# Altium integrated library Linear Technology Power Management Battery Management.IntLib: 626 symbols (part 39 of 56)
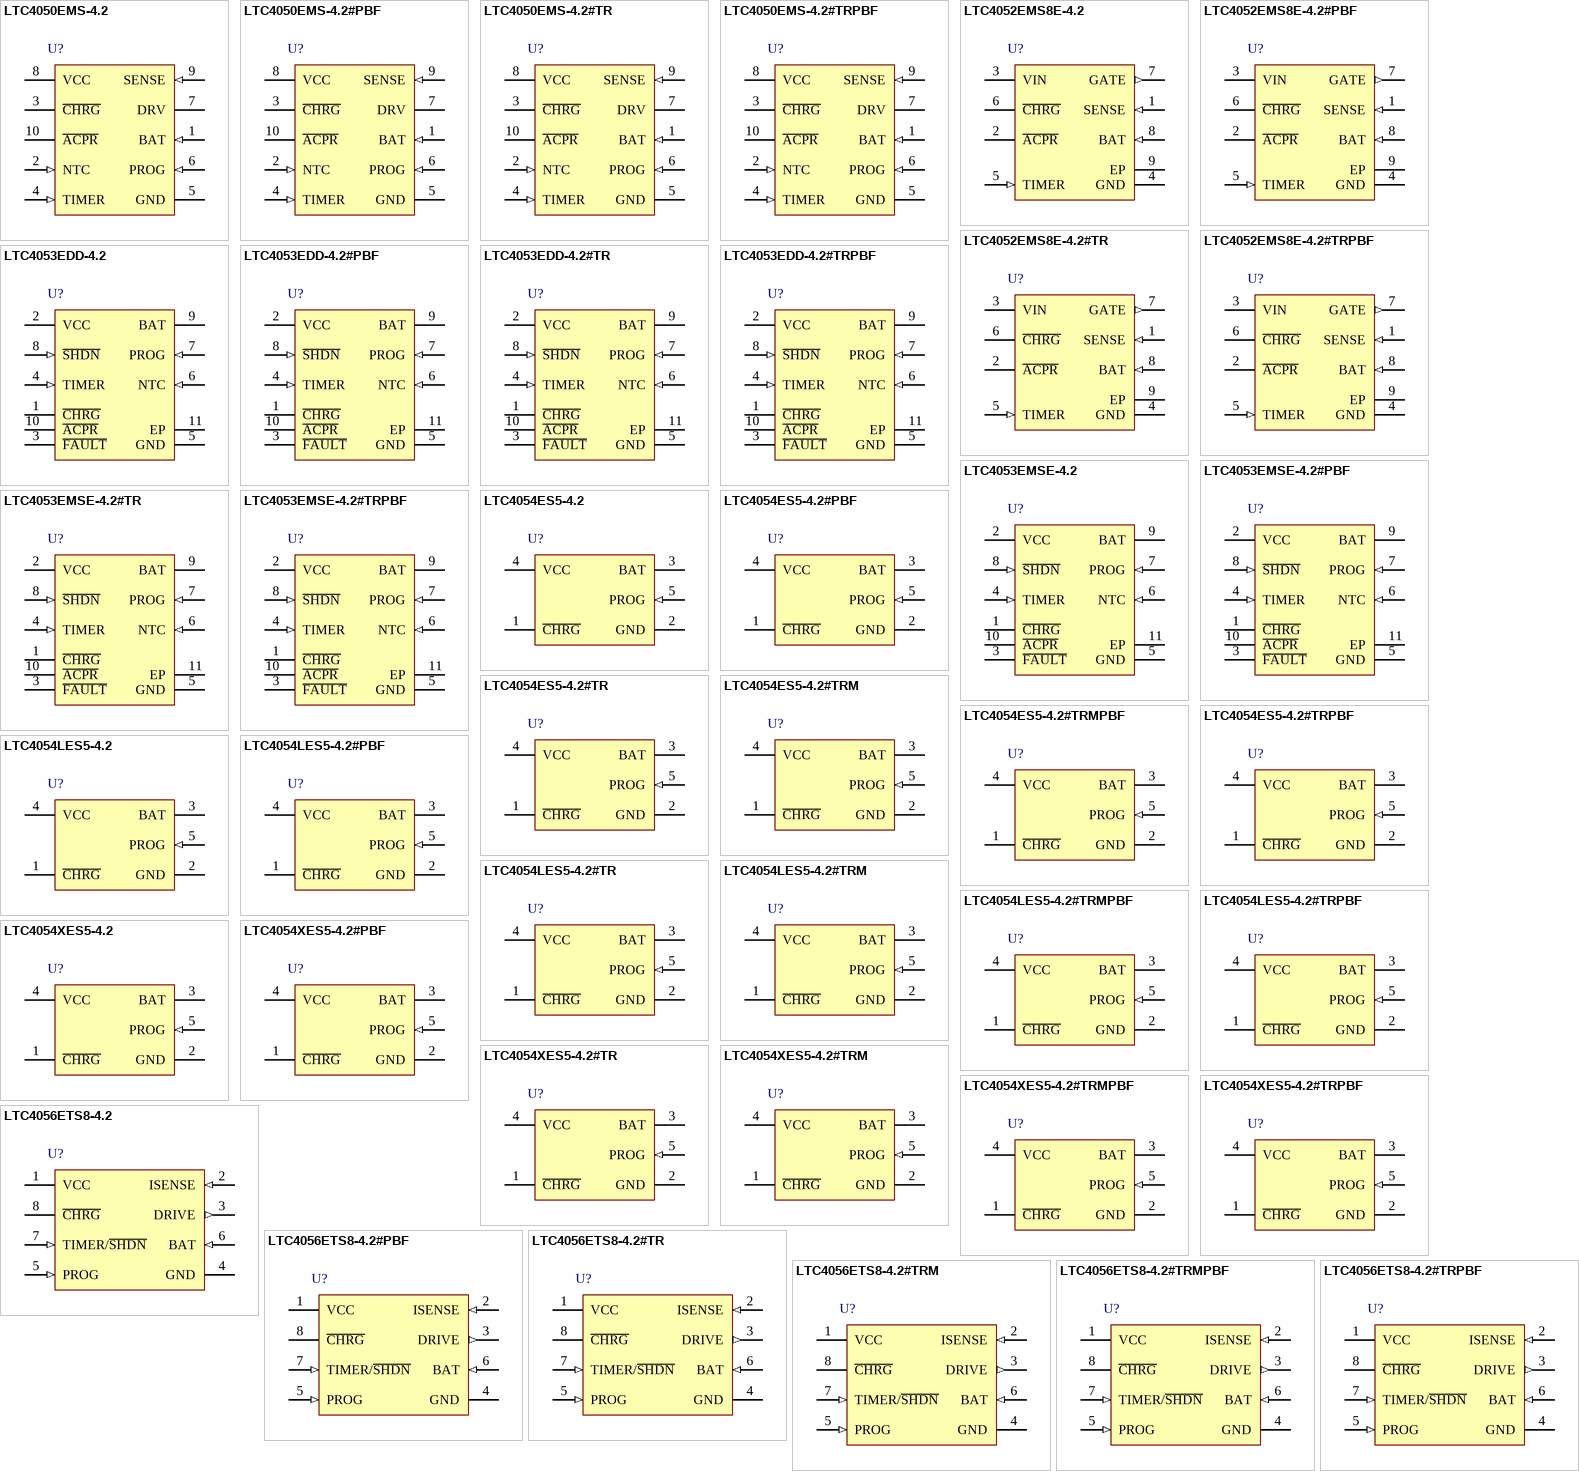
[diagram p60: symbols LTC4050EMS-4.2 to LTC4056ETS8-4.2#TRPBF]

## LTC4053EMSE-4.2#PBF
designator U?
USB Compatible Lithium-Ion Battery Charger with Thermal Regulation, 4.25 to 6.5 V Vin, 10-pin SOP (MSE-10-EDP), -40 to 85 degC, Pb-Free; Manufacturer: Linear Technology; PartNumber: LTC4053EMSE-4.2#PBF; Battery Chemistry: Li-Ion, Li-Polymer; Charge Termination: On-board timer; Float Voltage: 4.2 V; Max Charge Current(A): 1.25; Number of Cells: 1; Type of Charger: Linear; Vin Max(V): 6.5; Vin Min(V): 4.25; DatasheetVersion: Rev. A; PackageVersion: Rev. C, 08/2009; PackageReference: MSE-10; PackageDescription: 10-Pin Plastic MSOP, Exposed Die Pad, Body 3 x 3 mm, Pitch 0.5 mm; Supplier 1: Digi-Key; Supplier Part Number 1: LTC4053EMSE-4.2#PBF-ND; Supplier 2: Farnell; Supplier Part Number 2: 1663727; Supplier 3: Newark; Supplier Part Number 3: 58M0850; RoHS: TRUE; Mounting Technology: Surface Mount; ComponentLink1Description: Manufacturer URL; ComponentLink1URL: http://www.linear.com/; ComponentLink2Description: Datasheet; ComponentLink2URL: http://cds.linear.com/docs/en/datasheet/4053-4.2fs.pdf; ComponentLink3Description: Package Specification; ComponentLink3URL: http://cds.linear.com/docs/en/datasheet/3481fc.pdf
footprint LT-MSE-10-EDP-2060x1830TP_N (SOP, 10-Leads, Body 3.1x3.1mm, Pitch 0.5mm, Thermal Pad 2.17x1.94mm, IPC Medium Density)
footprint LT-MSE-10-EDP-2060x1830TP_L (SOP, 10-Leads, Body 3.1x3.1mm, Pitch 0.5mm, Thermal Pad 2.17x1.94mm, IPC High Density)
footprint LT-MSE-10-EDP-2060x1830TP_M (SOP, 10-Leads, Body 3.1x3.1mm, Pitch 0.5mm, Thermal Pad 2.17x1.94mm, IPC Low Density)
pins: 1 ~{CHRG} (hiz) "Open-Drain Charge Status Output. When the battery is being charged, the C\H\R\G\ pin is pulled low by an internal N-channel MOSFET. When the charge current drops to 10% of the full-scale current, the N-channel MOSFET latches (See Datasheet)", 2 VCC (power), 3 ~{FAULT} (oc), 4 TIMER (in), 5 GND (power) "Ground. The exposed backside of the package is also ground and must be soldered to the PC board for maximum heat transfer.", 6 NTC (in), 7 PROG (in), 8 ~{SHDN} (in), 9 BAT (power) "Charge Current Output. A bypass capacitor of at least 1uF with a 1ohm series resistor is required to keep the loop stable when the battery is not present. A precision internal resistor divider sets the final float potential (See Datasheet)", 10 ~{ACPR} (hiz) "Open-Drain Power Supply Status Output. When VCC is greater than the undervoltage lockout threshold and at least 35mV above VBAT, the A\C\P\R\ pin will pull to ground. Otherwise, the pin is high impedance.", 11 EP (power) "Ground. The exposed backside of the package is also ground and must be soldered to the PC board for maximum heat transfer."

## LTC4053EMSE-4.2#TR
designator U?
USB Compatible Lithium-Ion Battery Charger with Thermal Regulation, 4.25 to 6.5 V Vin, 10-pin SOP (MSE-10-EDP), -40 to 85 degC, Tape and Reel; Manufacturer: Linear Technology; PartNumber: LTC4053EMSE-4.2#TR; Battery Chemistry: Li-Ion, Li-Polymer; Charge Termination: On-board timer; Float Voltage: 4.2 V; Max Charge Current(A): 1.25; Number of Cells: 1; Type of Charger: Linear; Vin Max(V): 6.5; Vin Min(V): 4.25; DatasheetVersion: Rev. A; PackageVersion: Rev. C, 08/2009; PackageReference: MSE-10; PackageDescription: 10-Pin Plastic MSOP, Exposed Die Pad, Body 3 x 3 mm, Pitch 0.5 mm; Supplier 1: Digi-Key; Supplier Part Number 1: LTC4053EMSE-4.2TR-ND; Packing: Tape and Reel; RoHS: FALSE; Mounting Technology: Surface Mount; ComponentLink1Description: Manufacturer URL; ComponentLink1URL: http://www.linear.com/; ComponentLink2Description: Datasheet; ComponentLink2URL: http://cds.linear.com/docs/en/datasheet/4053-4.2fs.pdf; ComponentLink3Description: Package Specification; ComponentLink3URL: http://cds.linear.com/docs/en/datasheet/3481fc.pdf
footprint LT-MSE-10-EDP-2060x1830TP_N (SOP, 10-Leads, Body 3.1x3.1mm, Pitch 0.5mm, Thermal Pad 2.17x1.94mm, IPC Medium Density)
footprint LT-MSE-10-EDP-2060x1830TP_L (SOP, 10-Leads, Body 3.1x3.1mm, Pitch 0.5mm, Thermal Pad 2.17x1.94mm, IPC High Density)
footprint LT-MSE-10-EDP-2060x1830TP_M (SOP, 10-Leads, Body 3.1x3.1mm, Pitch 0.5mm, Thermal Pad 2.17x1.94mm, IPC Low Density)
pins: 1 ~{CHRG} (hiz) "Open-Drain Charge Status Output. When the battery is being charged, the C\H\R\G\ pin is pulled low by an internal N-channel MOSFET. When the charge current drops to 10% of the full-scale current, the N-channel MOSFET latches (See Datasheet)", 2 VCC (power), 3 ~{FAULT} (oc), 4 TIMER (in), 5 GND (power) "Ground. The exposed backside of the package is also ground and must be soldered to the PC board for maximum heat transfer.", 6 NTC (in), 7 PROG (in), 8 ~{SHDN} (in), 9 BAT (power) "Charge Current Output. A bypass capacitor of at least 1uF with a 1ohm series resistor is required to keep the loop stable when the battery is not present. A precision internal resistor divider sets the final float potential (See Datasheet)", 10 ~{ACPR} (hiz) "Open-Drain Power Supply Status Output. When VCC is greater than the undervoltage lockout threshold and at least 35mV above VBAT, the A\C\P\R\ pin will pull to ground. Otherwise, the pin is high impedance.", 11 EP (power) "Ground. The exposed backside of the package is also ground and must be soldered to the PC board for maximum heat transfer."

## LTC4053EMSE-4.2#TRPBF
designator U?
USB Compatible Lithium-Ion Battery Charger with Thermal Regulation, 4.25 to 6.5 V Vin, 10-pin SOP (MSE-10-EDP), -40 to 85 degC, Pb-Free, Tape and Reel; Manufacturer: Linear Technology; PartNumber: LTC4053EMSE-4.2#TRPBF; Battery Chemistry: Li-Ion, Li-Polymer; Charge Termination: On-board timer; Float Voltage: 4.2 V; Max Charge Current(A): 1.25; Number of Cells: 1; Type of Charger: Linear; Vin Max(V): 6.5; Vin Min(V): 4.25; DatasheetVersion: Rev. A; PackageVersion: Rev. C, 08/2009; PackageReference: MSE-10; PackageDescription: 10-Pin Plastic MSOP, Exposed Die Pad, Body 3 x 3 mm, Pitch 0.5 mm; Supplier 1: Digi-Key; Supplier Part Number 1: LTC4053EMSE-4.2#TRPBF-ND; Packing: Tape and Reel; RoHS: TRUE; Mounting Technology: Surface Mount; ComponentLink1Description: Manufacturer URL; ComponentLink1URL: http://www.linear.com/; ComponentLink2Description: Datasheet; ComponentLink2URL: http://cds.linear.com/docs/en/datasheet/4053-4.2fs.pdf; ComponentLink3Description: Package Specification; ComponentLink3URL: http://cds.linear.com/docs/en/datasheet/3481fc.pdf
footprint LT-MSE-10-EDP-2060x1830TP_N (SOP, 10-Leads, Body 3.1x3.1mm, Pitch 0.5mm, Thermal Pad 2.17x1.94mm, IPC Medium Density)
footprint LT-MSE-10-EDP-2060x1830TP_L (SOP, 10-Leads, Body 3.1x3.1mm, Pitch 0.5mm, Thermal Pad 2.17x1.94mm, IPC High Density)
footprint LT-MSE-10-EDP-2060x1830TP_M (SOP, 10-Leads, Body 3.1x3.1mm, Pitch 0.5mm, Thermal Pad 2.17x1.94mm, IPC Low Density)
pins: 1 ~{CHRG} (hiz) "Open-Drain Charge Status Output. When the battery is being charged, the C\H\R\G\ pin is pulled low by an internal N-channel MOSFET. When the charge current drops to 10% of the full-scale current, the N-channel MOSFET latches (See Datasheet)", 2 VCC (power), 3 ~{FAULT} (oc), 4 TIMER (in), 5 GND (power) "Ground. The exposed backside of the package is also ground and must be soldered to the PC board for maximum heat transfer.", 6 NTC (in), 7 PROG (in), 8 ~{SHDN} (in), 9 BAT (power) "Charge Current Output. A bypass capacitor of at least 1uF with a 1ohm series resistor is required to keep the loop stable when the battery is not present. A precision internal resistor divider sets the final float potential (See Datasheet)", 10 ~{ACPR} (hiz) "Open-Drain Power Supply Status Output. When VCC is greater than the undervoltage lockout threshold and at least 35mV above VBAT, the A\C\P\R\ pin will pull to ground. Otherwise, the pin is high impedance.", 11 EP (power) "Ground. The exposed backside of the package is also ground and must be soldered to the PC board for maximum heat transfer."

## LTC4054ES5-4.2
designator U?
Standalone Linear Li-Ion Battery Charger with Thermal Regulation, 4.25 to 6.5 V Vin, 5-pin SOT23 (S5-5), -40 to 85 degC; Manufacturer: Linear Technology; PartNumber: LTC4054ES5-4.2; Battery Chemistry: Li-Ion, Li-Polymer; Charge Termination: C/10; Float Voltage: 4.2 V; Max Charge Current(A): 0.8; Number of Cells: 1; Vin Max(V): 6.5; Vin Min(V): 4.25; PackageVersion: Jun-10; PackageReference: S5-5; PackageDescription: 5-Pin Plastic TSOT-23, Body 1.63 x 2.90 mm, Pitch 0.95 mm; RoHS: FALSE; Type of Charger: Linear; Mounting Technology: Surface Mount; Code_JEDEC: MO-193; ComponentLink1Description: Manufacturer URL; ComponentLink1URL: http://www.linear.com/; ComponentLink2Description: Datasheet; ComponentLink2URL: http://cds.linear.com/docs/en/datasheet/405442xf.pdf; ComponentLink3Description: Package Specification; ComponentLink3URL: http://cds.linear.com/docs/en/packaging/SOT_5_05-08-1635.pdf
footprint LT-S5-5-TSOT-23_N (SOT23, 5-Leads, Body 2.90x1.63mm, Pitch 0.95mm, IPC Medium Density)
footprint LT-S5-5-TSOT-23_L (SOT23, 5-Leads, Body 2.90x1.63mm, Pitch 0.95mm, IPC High Density)
footprint LT-S5-5-TSOT-23_M (SOT23, 5-Leads, Body 2.90x1.63mm, Pitch 0.95mm, IPC Low Density)
pins: 1 ~{CHRG} (hiz), 2 GND (power) "Ground.", 3 BAT (power) "Charge Current Output. Provides charge current to the battery and regulates the final float voltage to 4.2V. An internal precision resistor divider from this pin sets the float voltage which is disconnected in shutdown mode.", 4 VCC (power), 5 PROG (in) "Charge Current Program, Charge Current Monitor and Shutdown Pin. The charge current is programmed by connecting a 1% resistor, RPROG, to ground. When charging in constant-current mode, this pin servos to 1V. In all modes, (See Datasheet)"

## LTC4054ES5-4.2#PBF
designator U?
Standalone Linear Li-Ion Battery Charger with Thermal Regulation, 4.25 to 6.5 V Vin, 5-pin SOT23 (S5-5), -40 to 85 degC, Pb-Free; Manufacturer: Linear Technology; PartNumber: LTC4054ES5-4.2#PBF; Battery Chemistry: Li-Ion, Li-Polymer; Charge Termination: C/10; Float Voltage: 4.2 V; Max Charge Current(A): 0.8; Number of Cells: 1; Vin Max(V): 6.5; Vin Min(V): 4.25; PackageVersion: Jun-10; PackageReference: S5-5; PackageDescription: 5-Pin Plastic TSOT-23, Body 1.63 x 2.90 mm, Pitch 0.95 mm; RoHS: TRUE; Type of Charger: Linear; Mounting Technology: Surface Mount; Code_JEDEC: MO-193; ComponentLink1Description: Manufacturer URL; ComponentLink1URL: http://www.linear.com/; ComponentLink2Description: Datasheet; ComponentLink2URL: http://cds.linear.com/docs/en/datasheet/405442xf.pdf; ComponentLink3Description: Package Specification; ComponentLink3URL: http://cds.linear.com/docs/en/packaging/SOT_5_05-08-1635.pdf
footprint LT-S5-5-TSOT-23_N (SOT23, 5-Leads, Body 2.90x1.63mm, Pitch 0.95mm, IPC Medium Density)
footprint LT-S5-5-TSOT-23_L (SOT23, 5-Leads, Body 2.90x1.63mm, Pitch 0.95mm, IPC High Density)
footprint LT-S5-5-TSOT-23_M (SOT23, 5-Leads, Body 2.90x1.63mm, Pitch 0.95mm, IPC Low Density)
pins: 1 ~{CHRG} (hiz), 2 GND (power) "Ground.", 3 BAT (power) "Charge Current Output. Provides charge current to the battery and regulates the final float voltage to 4.2V. An internal precision resistor divider from this pin sets the float voltage which is disconnected in shutdown mode.", 4 VCC (power), 5 PROG (in) "Charge Current Program, Charge Current Monitor and Shutdown Pin. The charge current is programmed by connecting a 1% resistor, RPROG, to ground. When charging in constant-current mode, this pin servos to 1V. In all modes, (See Datasheet)"

## LTC4054ES5-4.2#TR
designator U?
Standalone Linear Li-Ion Battery Charger with Thermal Regulation, 4.25 to 6.5 V Vin, 5-pin SOT23 (S5-5), -40 to 85 degC, Tape and Reel; Manufacturer: Linear Technology; PartNumber: LTC4054ES5-4.2#TR; Battery Chemistry: Li-Ion, Li-Polymer; Charge Termination: C/10; Float Voltage: 4.2 V; Max Charge Current(A): 0.8; Number of Cells: 1; Vin Max(V): 6.5; Vin Min(V): 4.25; PackageVersion: Jun-10; PackageReference: S5-5; PackageDescription: 5-Pin Plastic TSOT-23, Body 1.63 x 2.90 mm, Pitch 0.95 mm; Supplier 1: Digi-Key; Supplier Part Number 1: LTC4054ES5-4.2#TR-ND; Packing: Tape and Reel; RoHS: FALSE; Type of Charger: Linear; Mounting Technology: Surface Mount; Code_JEDEC: MO-193; ComponentLink1Description: Manufacturer URL; ComponentLink1URL: http://www.linear.com/; ComponentLink2Description: Datasheet; ComponentLink2URL: http://cds.linear.com/docs/en/datasheet/405442xf.pdf; ComponentLink3Description: Package Specification; ComponentLink3URL: http://cds.linear.com/docs/en/packaging/SOT_5_05-08-1635.pdf
footprint LT-S5-5-TSOT-23_N (SOT23, 5-Leads, Body 2.90x1.63mm, Pitch 0.95mm, IPC Medium Density)
footprint LT-S5-5-TSOT-23_L (SOT23, 5-Leads, Body 2.90x1.63mm, Pitch 0.95mm, IPC High Density)
footprint LT-S5-5-TSOT-23_M (SOT23, 5-Leads, Body 2.90x1.63mm, Pitch 0.95mm, IPC Low Density)
pins: 1 ~{CHRG} (hiz), 2 GND (power) "Ground.", 3 BAT (power) "Charge Current Output. Provides charge current to the battery and regulates the final float voltage to 4.2V. An internal precision resistor divider from this pin sets the float voltage which is disconnected in shutdown mode.", 4 VCC (power), 5 PROG (in) "Charge Current Program, Charge Current Monitor and Shutdown Pin. The charge current is programmed by connecting a 1% resistor, RPROG, to ground. When charging in constant-current mode, this pin servos to 1V. In all modes, (See Datasheet)"

## LTC4054ES5-4.2#TRM
designator U?
Standalone Linear Li-Ion Battery Charger with Thermal Regulation, 4.25 to 6.5 V Vin, 5-pin SOT23 (S5-5), -40 to 85 degC, Mini Tape and Reel; Manufacturer: Linear Technology; PartNumber: LTC4054ES5-4.2#TRM; Battery Chemistry: Li-Ion, Li-Polymer; Charge Termination: C/10; Float Voltage: 4.2 V; Max Charge Current(A): 0.8; Number of Cells: 1; Vin Max(V): 6.5; Vin Min(V): 4.25; PackageVersion: Jun-10; PackageReference: S5-5; PackageDescription: 5-Pin Plastic TSOT-23, Body 1.63 x 2.90 mm, Pitch 0.95 mm; Supplier 1: Digi-Key; Supplier Part Number 1: LTC4054ES5-4.2#TRM-ND; Packing: Mini Tape and Reel; RoHS: FALSE; Type of Charger: Linear; Mounting Technology: Surface Mount; Code_JEDEC: MO-193; ComponentLink1Description: Manufacturer URL; ComponentLink1URL: http://www.linear.com/; ComponentLink2Description: Datasheet; ComponentLink2URL: http://cds.linear.com/docs/en/datasheet/405442xf.pdf; ComponentLink3Description: Package Specification; ComponentLink3URL: http://cds.linear.com/docs/en/packaging/SOT_5_05-08-1635.pdf
footprint LT-S5-5-TSOT-23_N (SOT23, 5-Leads, Body 2.90x1.63mm, Pitch 0.95mm, IPC Medium Density)
footprint LT-S5-5-TSOT-23_L (SOT23, 5-Leads, Body 2.90x1.63mm, Pitch 0.95mm, IPC High Density)
footprint LT-S5-5-TSOT-23_M (SOT23, 5-Leads, Body 2.90x1.63mm, Pitch 0.95mm, IPC Low Density)
pins: 1 ~{CHRG} (hiz), 2 GND (power) "Ground.", 3 BAT (power) "Charge Current Output. Provides charge current to the battery and regulates the final float voltage to 4.2V. An internal precision resistor divider from this pin sets the float voltage which is disconnected in shutdown mode.", 4 VCC (power), 5 PROG (in) "Charge Current Program, Charge Current Monitor and Shutdown Pin. The charge current is programmed by connecting a 1% resistor, RPROG, to ground. When charging in constant-current mode, this pin servos to 1V. In all modes, (See Datasheet)"

## LTC4054ES5-4.2#TRMPBF
designator U?
Standalone Linear Li-Ion Battery Charger with Thermal Regulation, 4.25 to 6.5 V Vin, 5-pin SOT23 (S5-5), -40 to 85 degC, Pb-Free, Mini Tape and Reel; Manufacturer: Linear Technology; PartNumber: LTC4054ES5-4.2#TRMPBF; Battery Chemistry: Li-Ion, Li-Polymer; Charge Termination: C/10; Float Voltage: 4.2 V; Max Charge Current(A): 0.8; Number of Cells: 1; Vin Max(V): 6.5; Vin Min(V): 4.25; PackageVersion: Jun-10; PackageReference: S5-5; PackageDescription: 5-Pin Plastic TSOT-23, Body 1.63 x 2.90 mm, Pitch 0.95 mm; Supplier 1: Digi-Key; Supplier Part Number 1: LTC4054ES5-4.2#TRMPBF-ND; Supplier 2: Newark; Supplier Part Number 2: 58M0855; Packing: Mini Tape and Reel; RoHS: TRUE; Type of Charger: Linear; Mounting Technology: Surface Mount; Code_JEDEC: MO-193; ComponentLink1Description: Manufacturer URL; ComponentLink1URL: http://www.linear.com/; ComponentLink2Description: Datasheet; ComponentLink2URL: http://cds.linear.com/docs/en/datasheet/405442xf.pdf; ComponentLink3Description: Package Specification; ComponentLink3URL: http://cds.linear.com/docs/en/packaging/SOT_5_05-08-1635.pdf
footprint LT-S5-5-TSOT-23_N (SOT23, 5-Leads, Body 2.90x1.63mm, Pitch 0.95mm, IPC Medium Density)
footprint LT-S5-5-TSOT-23_L (SOT23, 5-Leads, Body 2.90x1.63mm, Pitch 0.95mm, IPC High Density)
footprint LT-S5-5-TSOT-23_M (SOT23, 5-Leads, Body 2.90x1.63mm, Pitch 0.95mm, IPC Low Density)
pins: 1 ~{CHRG} (hiz), 2 GND (power) "Ground.", 3 BAT (power) "Charge Current Output. Provides charge current to the battery and regulates the final float voltage to 4.2V. An internal precision resistor divider from this pin sets the float voltage which is disconnected in shutdown mode.", 4 VCC (power), 5 PROG (in) "Charge Current Program, Charge Current Monitor and Shutdown Pin. The charge current is programmed by connecting a 1% resistor, RPROG, to ground. When charging in constant-current mode, this pin servos to 1V. In all modes, (See Datasheet)"

## LTC4054ES5-4.2#TRPBF
designator U?
Standalone Linear Li-Ion Battery Charger with Thermal Regulation, 4.25 to 6.5 V Vin, 5-pin SOT23 (S5-5), -40 to 85 degC, Pb-Free, Tape and Reel; Manufacturer: Linear Technology; PartNumber: LTC4054ES5-4.2#TRPBF; Battery Chemistry: Li-Ion, Li-Polymer; Charge Termination: C/10; Float Voltage: 4.2 V; Max Charge Current(A): 0.8; Number of Cells: 1; Vin Max(V): 6.5; Vin Min(V): 4.25; PackageVersion: Jun-10; PackageReference: S5-5; PackageDescription: 5-Pin Plastic TSOT-23, Body 1.63 x 2.90 mm, Pitch 0.95 mm; Supplier 1: Digi-Key; Supplier Part Number 1: LTC4054ES5-4.2#TRPBF-ND; Supplier 2: Newark; Supplier Part Number 2: 58M0856; Packing: Tape and Reel; RoHS: TRUE; Type of Charger: Linear; Mounting Technology: Surface Mount; Code_JEDEC: MO-193; ComponentLink1Description: Manufacturer URL; ComponentLink1URL: http://www.linear.com/; ComponentLink2Description: Datasheet; ComponentLink2URL: http://cds.linear.com/docs/en/datasheet/405442xf.pdf; ComponentLink3Description: Package Specification; ComponentLink3URL: http://cds.linear.com/docs/en/packaging/SOT_5_05-08-1635.pdf
footprint LT-S5-5-TSOT-23_N (SOT23, 5-Leads, Body 2.90x1.63mm, Pitch 0.95mm, IPC Medium Density)
footprint LT-S5-5-TSOT-23_L (SOT23, 5-Leads, Body 2.90x1.63mm, Pitch 0.95mm, IPC High Density)
footprint LT-S5-5-TSOT-23_M (SOT23, 5-Leads, Body 2.90x1.63mm, Pitch 0.95mm, IPC Low Density)
pins: 1 ~{CHRG} (hiz), 2 GND (power) "Ground.", 3 BAT (power) "Charge Current Output. Provides charge current to the battery and regulates the final float voltage to 4.2V. An internal precision resistor divider from this pin sets the float voltage which is disconnected in shutdown mode.", 4 VCC (power), 5 PROG (in) "Charge Current Program, Charge Current Monitor and Shutdown Pin. The charge current is programmed by connecting a 1% resistor, RPROG, to ground. When charging in constant-current mode, this pin servos to 1V. In all modes, (See Datasheet)"

## LTC4054LES5-4.2
designator U?
150 mA Standalone Linear Li-Ion Battery Charger, 4.25 to 6.5 V Vin, 5-pin SOT23 (S5-5), -40 to 85 degC; Manufacturer: Linear Technology; PartNumber: LTC4054LES5-4.2; Battery Chemistry: Li-Ion, Li-Polymer; Charge Termination: C/10; Float Voltage: 4.2 V; Max Charge Current(A): 0.15; Number of Cells: 1; Vin Max(V): 6.5; Vin Min(V): 4.25; DatasheetVersion: Rev. A; PackageVersion: Jun-10; PackageReference: S5-5; PackageDescription: 5-Pin Plastic TSOT-23, Body 1.63 x 2.90 mm, Pitch 0.95 mm; RoHS: FALSE; Type of Charger: Linear; Mounting Technology: Surface Mount; Code_JEDEC: MO-193; ComponentLink1Description: Manufacturer URL; ComponentLink1URL: http://www.linear.com/; ComponentLink2Description: Datasheet; ComponentLink2URL: http://cds.linear.com/docs/en/datasheet/4054l42fa.pdf; ComponentLink3Description: Package Specification; ComponentLink3URL: http://cds.linear.com/docs/en/packaging/SOT_5_05-08-1635.pdf
footprint LT-S5-5-TSOT-23_N (SOT23, 5-Leads, Body 2.90x1.63mm, Pitch 0.95mm, IPC Medium Density)
footprint LT-S5-5-TSOT-23_L (SOT23, 5-Leads, Body 2.90x1.63mm, Pitch 0.95mm, IPC High Density)
footprint LT-S5-5-TSOT-23_M (SOT23, 5-Leads, Body 2.90x1.63mm, Pitch 0.95mm, IPC Low Density)
pins: 1 ~{CHRG} (hiz), 2 GND (power) "Ground.", 3 BAT (power) "Charge Current Output. Provides charge current to the battery and regulates the final float voltage to 4.2V. An internal precision resistor divider from this pin sets the float voltage which is disconnected in shutdown mode.", 4 VCC (power), 5 PROG (in) "Charge Current Program, Charge Current Monitor and Shutdown Pin. The charge current is programmed by connecting a 1% resistor, RPROG, to ground. When charging in constant-current mode, this pin servos to 1V. In all modes, (See Datasheet)"

## LTC4054LES5-4.2#PBF
designator U?
150 mA Standalone Linear Li-Ion Battery Charger, 4.25 to 6.5 V Vin, 5-pin SOT23 (S5-5), -40 to 85 degC, Pb-Free; Manufacturer: Linear Technology; PartNumber: LTC4054LES5-4.2#PBF; Battery Chemistry: Li-Ion, Li-Polymer; Charge Termination: C/10; Float Voltage: 4.2 V; Max Charge Current(A): 0.15; Number of Cells: 1; Vin Max(V): 6.5; Vin Min(V): 4.25; DatasheetVersion: Rev. A; PackageVersion: Jun-10; PackageReference: S5-5; PackageDescription: 5-Pin Plastic TSOT-23, Body 1.63 x 2.90 mm, Pitch 0.95 mm; Supplier 1: Farnell; Supplier Part Number 1: 2102610; Supplier 2: Newark; Supplier Part Number 2: 78T3294; RoHS: TRUE; Type of Charger: Linear; Mounting Technology: Surface Mount; Code_JEDEC: MO-193; ComponentLink1Description: Manufacturer URL; ComponentLink1URL: http://www.linear.com/; ComponentLink2Description: Datasheet; ComponentLink2URL: http://cds.linear.com/docs/en/datasheet/4054l42fa.pdf; ComponentLink3Description: Package Specification; ComponentLink3URL: http://cds.linear.com/docs/en/packaging/SOT_5_05-08-1635.pdf
footprint LT-S5-5-TSOT-23_N (SOT23, 5-Leads, Body 2.90x1.63mm, Pitch 0.95mm, IPC Medium Density)
footprint LT-S5-5-TSOT-23_L (SOT23, 5-Leads, Body 2.90x1.63mm, Pitch 0.95mm, IPC High Density)
footprint LT-S5-5-TSOT-23_M (SOT23, 5-Leads, Body 2.90x1.63mm, Pitch 0.95mm, IPC Low Density)
pins: 1 ~{CHRG} (hiz), 2 GND (power) "Ground.", 3 BAT (power) "Charge Current Output. Provides charge current to the battery and regulates the final float voltage to 4.2V. An internal precision resistor divider from this pin sets the float voltage which is disconnected in shutdown mode.", 4 VCC (power), 5 PROG (in) "Charge Current Program, Charge Current Monitor and Shutdown Pin. The charge current is programmed by connecting a 1% resistor, RPROG, to ground. When charging in constant-current mode, this pin servos to 1V. In all modes, (See Datasheet)"

## LTC4054LES5-4.2#TR
designator U?
150 mA Standalone Linear Li-Ion Battery Charger, 4.25 to 6.5 V Vin, 5-pin SOT23 (S5-5), -40 to 85 degC, Tape and Reel; Manufacturer: Linear Technology; PartNumber: LTC4054LES5-4.2#TR; Battery Chemistry: Li-Ion, Li-Polymer; Charge Termination: C/10; Float Voltage: 4.2 V; Max Charge Current(A): 0.15; Number of Cells: 1; Vin Max(V): 6.5; Vin Min(V): 4.25; DatasheetVersion: Rev. A; PackageVersion: Jun-10; PackageReference: S5-5; PackageDescription: 5-Pin Plastic TSOT-23, Body 1.63 x 2.90 mm, Pitch 0.95 mm; Supplier 1: Digi-Key; Supplier Part Number 1: LTC4054LES5-4.2TR-ND; Packing: Tape and Reel; RoHS: FALSE; Type of Charger: Linear; Mounting Technology: Surface Mount; Code_JEDEC: MO-193; ComponentLink1Description: Manufacturer URL; ComponentLink1URL: http://www.linear.com/; ComponentLink2Description: Datasheet; ComponentLink2URL: http://cds.linear.com/docs/en/datasheet/4054l42fa.pdf; ComponentLink3Description: Package Specification; ComponentLink3URL: http://cds.linear.com/docs/en/packaging/SOT_5_05-08-1635.pdf
footprint LT-S5-5-TSOT-23_N (SOT23, 5-Leads, Body 2.90x1.63mm, Pitch 0.95mm, IPC Medium Density)
footprint LT-S5-5-TSOT-23_L (SOT23, 5-Leads, Body 2.90x1.63mm, Pitch 0.95mm, IPC High Density)
footprint LT-S5-5-TSOT-23_M (SOT23, 5-Leads, Body 2.90x1.63mm, Pitch 0.95mm, IPC Low Density)
pins: 1 ~{CHRG} (hiz), 2 GND (power) "Ground.", 3 BAT (power) "Charge Current Output. Provides charge current to the battery and regulates the final float voltage to 4.2V. An internal precision resistor divider from this pin sets the float voltage which is disconnected in shutdown mode.", 4 VCC (power), 5 PROG (in) "Charge Current Program, Charge Current Monitor and Shutdown Pin. The charge current is programmed by connecting a 1% resistor, RPROG, to ground. When charging in constant-current mode, this pin servos to 1V. In all modes, (See Datasheet)"

## LTC4054LES5-4.2#TRM
designator U?
150 mA Standalone Linear Li-Ion Battery Charger, 4.25 to 6.5 V Vin, 5-pin SOT23 (S5-5), -40 to 85 degC, Mini Tape and Reel; Manufacturer: Linear Technology; PartNumber: LTC4054LES5-4.2#TRM; Battery Chemistry: Li-Ion, Li-Polymer; Charge Termination: C/10; Float Voltage: 4.2 V; Max Charge Current(A): 0.15; Number of Cells: 1; Vin Max(V): 6.5; Vin Min(V): 4.25; DatasheetVersion: Rev. A; PackageVersion: Jun-10; PackageReference: S5-5; PackageDescription: 5-Pin Plastic TSOT-23, Body 1.63 x 2.90 mm, Pitch 0.95 mm; Supplier 1: Digi-Key; Supplier Part Number 1: LTC4054LES5-4.2#TRM-ND; Packing: Mini Tape and Reel; RoHS: FALSE; Type of Charger: Linear; Mounting Technology: Surface Mount; Code_JEDEC: MO-193; ComponentLink1Description: Manufacturer URL; ComponentLink1URL: http://www.linear.com/; ComponentLink2Description: Datasheet; ComponentLink2URL: http://cds.linear.com/docs/en/datasheet/4054l42fa.pdf; ComponentLink3Description: Package Specification; ComponentLink3URL: http://cds.linear.com/docs/en/packaging/SOT_5_05-08-1635.pdf
footprint LT-S5-5-TSOT-23_N (SOT23, 5-Leads, Body 2.90x1.63mm, Pitch 0.95mm, IPC Medium Density)
footprint LT-S5-5-TSOT-23_L (SOT23, 5-Leads, Body 2.90x1.63mm, Pitch 0.95mm, IPC High Density)
footprint LT-S5-5-TSOT-23_M (SOT23, 5-Leads, Body 2.90x1.63mm, Pitch 0.95mm, IPC Low Density)
pins: 1 ~{CHRG} (hiz), 2 GND (power) "Ground.", 3 BAT (power) "Charge Current Output. Provides charge current to the battery and regulates the final float voltage to 4.2V. An internal precision resistor divider from this pin sets the float voltage which is disconnected in shutdown mode.", 4 VCC (power), 5 PROG (in) "Charge Current Program, Charge Current Monitor and Shutdown Pin. The charge current is programmed by connecting a 1% resistor, RPROG, to ground. When charging in constant-current mode, this pin servos to 1V. In all modes, (See Datasheet)"

## LTC4054LES5-4.2#TRMPBF
designator U?
150 mA Standalone Linear Li-Ion Battery Charger, 4.25 to 6.5 V Vin, 5-pin SOT23 (S5-5), -40 to 85 degC, Pb-Free, Mini Tape and Reel; Manufacturer: Linear Technology; PartNumber: LTC4054LES5-4.2#TRMPBF; Battery Chemistry: Li-Ion, Li-Polymer; Charge Termination: C/10; Float Voltage: 4.2 V; Max Charge Current(A): 0.15; Number of Cells: 1; Vin Max(V): 6.5; Vin Min(V): 4.25; DatasheetVersion: Rev. A; PackageVersion: Jun-10; PackageReference: S5-5; PackageDescription: 5-Pin Plastic TSOT-23, Body 1.63 x 2.90 mm, Pitch 0.95 mm; Supplier 1: Digi-Key; Supplier Part Number 1: LTC4054LES5-4.2#TRMPBFTR-ND; Supplier 2: Digi-Key; Supplier Part Number 2: LTC4054LES5-4.2#TRMPBFCT-ND; Supplier 3: Digi-Key; Supplier Part Number 3: LTC4054LES5-4.2#TRMPBFDKR-ND; Packing: Mini Tape and Reel; RoHS: TRUE; Type of Charger: Linear; Mounting Technology: Surface Mount; Code_JEDEC: MO-193; ComponentLink1Description: Manufacturer URL; ComponentLink1URL: http://www.linear.com/; ComponentLink2Description: Datasheet; ComponentLink2URL: http://cds.linear.com/docs/en/datasheet/4054l42fa.pdf; ComponentLink3Description: Package Specification; ComponentLink3URL: http://cds.linear.com/docs/en/packaging/SOT_5_05-08-1635.pdf
footprint LT-S5-5-TSOT-23_N (SOT23, 5-Leads, Body 2.90x1.63mm, Pitch 0.95mm, IPC Medium Density)
footprint LT-S5-5-TSOT-23_L (SOT23, 5-Leads, Body 2.90x1.63mm, Pitch 0.95mm, IPC High Density)
footprint LT-S5-5-TSOT-23_M (SOT23, 5-Leads, Body 2.90x1.63mm, Pitch 0.95mm, IPC Low Density)
pins: 1 ~{CHRG} (hiz), 2 GND (power) "Ground.", 3 BAT (power) "Charge Current Output. Provides charge current to the battery and regulates the final float voltage to 4.2V. An internal precision resistor divider from this pin sets the float voltage which is disconnected in shutdown mode.", 4 VCC (power), 5 PROG (in) "Charge Current Program, Charge Current Monitor and Shutdown Pin. The charge current is programmed by connecting a 1% resistor, RPROG, to ground. When charging in constant-current mode, this pin servos to 1V. In all modes, (See Datasheet)"

## LTC4054LES5-4.2#TRPBF
designator U?
150 mA Standalone Linear Li-Ion Battery Charger, 4.25 to 6.5 V Vin, 5-pin SOT23 (S5-5), -40 to 85 degC, Pb-Free, Tape and Reel; Manufacturer: Linear Technology; PartNumber: LTC4054LES5-4.2#TRPBF; Battery Chemistry: Li-Ion, Li-Polymer; Charge Termination: C/10; Float Voltage: 4.2 V; Max Charge Current(A): 0.15; Number of Cells: 1; Vin Max(V): 6.5; Vin Min(V): 4.25; DatasheetVersion: Rev. A; PackageVersion: Jun-10; PackageReference: S5-5; PackageDescription: 5-Pin Plastic TSOT-23, Body 1.63 x 2.90 mm, Pitch 0.95 mm; Supplier 1: Digi-Key; Supplier Part Number 1: LTC4054LES5-4.2#TRPBFTR-ND; Supplier 2: Digi-Key; Supplier Part Number 2: LTC4054LES5-4.2#TRPBFCT-ND; Supplier 3: Digi-Key; Supplier Part Number 3: LTC4054LES5-4.2#TRPBFDKR-ND; Supplier 4: Farnell; Supplier Part Number 4: 1537421; Supplier 5: Newark; Supplier Part Number 5: 58M0860; Packing: Tape and Reel; RoHS: TRUE; Type of Charger: Linear; Mounting Technology: Surface Mount; Code_JEDEC: MO-193; ComponentLink1Description: Manufacturer URL; ComponentLink1URL: http://www.linear.com/; ComponentLink2Description: Datasheet; ComponentLink2URL: http://cds.linear.com/docs/en/datasheet/4054l42fa.pdf; ComponentLink3Description: Package Specification; ComponentLink3URL: http://cds.linear.com/docs/en/packaging/SOT_5_05-08-1635.pdf
footprint LT-S5-5-TSOT-23_N (SOT23, 5-Leads, Body 2.90x1.63mm, Pitch 0.95mm, IPC Medium Density)
footprint LT-S5-5-TSOT-23_L (SOT23, 5-Leads, Body 2.90x1.63mm, Pitch 0.95mm, IPC High Density)
footprint LT-S5-5-TSOT-23_M (SOT23, 5-Leads, Body 2.90x1.63mm, Pitch 0.95mm, IPC Low Density)
pins: 1 ~{CHRG} (hiz), 2 GND (power) "Ground.", 3 BAT (power) "Charge Current Output. Provides charge current to the battery and regulates the final float voltage to 4.2V. An internal precision resistor divider from this pin sets the float voltage which is disconnected in shutdown mode.", 4 VCC (power), 5 PROG (in) "Charge Current Program, Charge Current Monitor and Shutdown Pin. The charge current is programmed by connecting a 1% resistor, RPROG, to ground. When charging in constant-current mode, this pin servos to 1V. In all modes, (See Datasheet)"

## LTC4054XES5-4.2
designator U?
Standalone Linear Li-Ion Battery Charger with Thermal Regulation, 4.25 to 6.5 V Vin, 5-pin SOT23 (S5-5), -40 to 85 degC; Manufacturer: Linear Technology; PartNumber: LTC4054XES5-4.2; Battery Chemistry: Li-Ion, Li-Polymer; Charge Termination: C/10; Float Voltage: 4.2 V; Max Charge Current(A): 0.8; Number of Cells: 1; Vin Max(V): 6.5; Vin Min(V): 4.25; PackageVersion: Jun-10; PackageReference: S5-5; PackageDescription: 5-Pin Plastic TSOT-23, Body 1.63 x 2.90 mm, Pitch 0.95 mm; RoHS: FALSE; Type of Charger: Linear; Mounting Technology: Surface Mount; Code_JEDEC: MO-193; ComponentLink1Description: Manufacturer URL; ComponentLink1URL: http://www.linear.com/; ComponentLink2Description: Datasheet; ComponentLink2URL: http://cds.linear.com/docs/en/datasheet/405442xf.pdf; ComponentLink3Description: Package Specification; ComponentLink3URL: http://cds.linear.com/docs/en/packaging/SOT_5_05-08-1635.pdf
footprint LT-S5-5-TSOT-23_N (SOT23, 5-Leads, Body 2.90x1.63mm, Pitch 0.95mm, IPC Medium Density)
footprint LT-S5-5-TSOT-23_L (SOT23, 5-Leads, Body 2.90x1.63mm, Pitch 0.95mm, IPC High Density)
footprint LT-S5-5-TSOT-23_M (SOT23, 5-Leads, Body 2.90x1.63mm, Pitch 0.95mm, IPC Low Density)
pins: 1 ~{CHRG} (hiz), 2 GND (power) "Ground.", 3 BAT (power) "Charge Current Output. Provides charge current to the battery and regulates the final float voltage to 4.2V. An internal precision resistor divider from this pin sets the float voltage which is disconnected in shutdown mode.", 4 VCC (power), 5 PROG (in) "Charge Current Program, Charge Current Monitor and Shutdown Pin. The charge current is programmed by connecting a 1% resistor, RPROG, to ground. When charging in constant-current mode, this pin servos to 1V. In all modes, (See Datasheet)"

## LTC4054XES5-4.2#PBF
designator U?
Standalone Linear Li-Ion Battery Charger with Thermal Regulation, 4.25 to 6.5 V Vin, 5-pin SOT23 (S5-5), -40 to 85 degC, Pb-Free; Manufacturer: Linear Technology; PartNumber: LTC4054XES5-4.2#PBF; Battery Chemistry: Li-Ion, Li-Polymer; Charge Termination: C/10; Float Voltage: 4.2 V; Max Charge Current(A): 0.8; Number of Cells: 1; Vin Max(V): 6.5; Vin Min(V): 4.25; PackageVersion: Jun-10; PackageReference: S5-5; PackageDescription: 5-Pin Plastic TSOT-23, Body 1.63 x 2.90 mm, Pitch 0.95 mm; RoHS: TRUE; Type of Charger: Linear; Mounting Technology: Surface Mount; Code_JEDEC: MO-193; ComponentLink1Description: Manufacturer URL; ComponentLink1URL: http://www.linear.com/; ComponentLink2Description: Datasheet; ComponentLink2URL: http://cds.linear.com/docs/en/datasheet/405442xf.pdf; ComponentLink3Description: Package Specification; ComponentLink3URL: http://cds.linear.com/docs/en/packaging/SOT_5_05-08-1635.pdf
footprint LT-S5-5-TSOT-23_N (SOT23, 5-Leads, Body 2.90x1.63mm, Pitch 0.95mm, IPC Medium Density)
footprint LT-S5-5-TSOT-23_L (SOT23, 5-Leads, Body 2.90x1.63mm, Pitch 0.95mm, IPC High Density)
footprint LT-S5-5-TSOT-23_M (SOT23, 5-Leads, Body 2.90x1.63mm, Pitch 0.95mm, IPC Low Density)
pins: 1 ~{CHRG} (hiz), 2 GND (power) "Ground.", 3 BAT (power) "Charge Current Output. Provides charge current to the battery and regulates the final float voltage to 4.2V. An internal precision resistor divider from this pin sets the float voltage which is disconnected in shutdown mode.", 4 VCC (power), 5 PROG (in) "Charge Current Program, Charge Current Monitor and Shutdown Pin. The charge current is programmed by connecting a 1% resistor, RPROG, to ground. When charging in constant-current mode, this pin servos to 1V. In all modes, (See Datasheet)"

## LTC4054XES5-4.2#TR
designator U?
Standalone Linear Li-Ion Battery Charger with Thermal Regulation, 4.25 to 6.5 V Vin, 5-pin SOT23 (S5-5), -40 to 85 degC, Tape and Reel; Manufacturer: Linear Technology; PartNumber: LTC4054XES5-4.2#TR; Battery Chemistry: Li-Ion, Li-Polymer; Charge Termination: C/10; Float Voltage: 4.2 V; Max Charge Current(A): 0.8; Number of Cells: 1; Vin Max(V): 6.5; Vin Min(V): 4.25; PackageVersion: Jun-10; PackageReference: S5-5; PackageDescription: 5-Pin Plastic TSOT-23, Body 1.63 x 2.90 mm, Pitch 0.95 mm; Supplier 1: Digi-Key; Supplier Part Number 1: LTC4054XES5-4.2TR-ND; Packing: Tape and Reel; RoHS: FALSE; Type of Charger: Linear; Mounting Technology: Surface Mount; Code_JEDEC: MO-193; ComponentLink1Description: Manufacturer URL; ComponentLink1URL: http://www.linear.com/; ComponentLink2Description: Datasheet; ComponentLink2URL: http://cds.linear.com/docs/en/datasheet/405442xf.pdf; ComponentLink3Description: Package Specification; ComponentLink3URL: http://cds.linear.com/docs/en/packaging/SOT_5_05-08-1635.pdf
footprint LT-S5-5-TSOT-23_N (SOT23, 5-Leads, Body 2.90x1.63mm, Pitch 0.95mm, IPC Medium Density)
footprint LT-S5-5-TSOT-23_L (SOT23, 5-Leads, Body 2.90x1.63mm, Pitch 0.95mm, IPC High Density)
footprint LT-S5-5-TSOT-23_M (SOT23, 5-Leads, Body 2.90x1.63mm, Pitch 0.95mm, IPC Low Density)
pins: 1 ~{CHRG} (hiz), 2 GND (power) "Ground.", 3 BAT (power) "Charge Current Output. Provides charge current to the battery and regulates the final float voltage to 4.2V. An internal precision resistor divider from this pin sets the float voltage which is disconnected in shutdown mode.", 4 VCC (power), 5 PROG (in) "Charge Current Program, Charge Current Monitor and Shutdown Pin. The charge current is programmed by connecting a 1% resistor, RPROG, to ground. When charging in constant-current mode, this pin servos to 1V. In all modes, (See Datasheet)"

## LTC4054XES5-4.2#TRM
designator U?
Standalone Linear Li-Ion Battery Charger with Thermal Regulation, 4.25 to 6.5 V Vin, 5-pin SOT23 (S5-5), -40 to 85 degC, Mini Tape and Reel; Manufacturer: Linear Technology; PartNumber: LTC4054XES5-4.2#TRM; Battery Chemistry: Li-Ion, Li-Polymer; Charge Termination: C/10; Float Voltage: 4.2 V; Max Charge Current(A): 0.8; Number of Cells: 1; Vin Max(V): 6.5; Vin Min(V): 4.25; PackageVersion: Jun-10; PackageReference: S5-5; PackageDescription: 5-Pin Plastic TSOT-23, Body 1.63 x 2.90 mm, Pitch 0.95 mm; Supplier 1: Digi-Key; Supplier Part Number 1: LTC4054XES5-4.2#TRM-ND; Packing: Mini Tape and Reel; RoHS: FALSE; Type of Charger: Linear; Mounting Technology: Surface Mount; Code_JEDEC: MO-193; ComponentLink1Description: Manufacturer URL; ComponentLink1URL: http://www.linear.com/; ComponentLink2Description: Datasheet; ComponentLink2URL: http://cds.linear.com/docs/en/datasheet/405442xf.pdf; ComponentLink3Description: Package Specification; ComponentLink3URL: http://cds.linear.com/docs/en/packaging/SOT_5_05-08-1635.pdf
footprint LT-S5-5-TSOT-23_N (SOT23, 5-Leads, Body 2.90x1.63mm, Pitch 0.95mm, IPC Medium Density)
footprint LT-S5-5-TSOT-23_L (SOT23, 5-Leads, Body 2.90x1.63mm, Pitch 0.95mm, IPC High Density)
footprint LT-S5-5-TSOT-23_M (SOT23, 5-Leads, Body 2.90x1.63mm, Pitch 0.95mm, IPC Low Density)
pins: 1 ~{CHRG} (hiz), 2 GND (power) "Ground.", 3 BAT (power) "Charge Current Output. Provides charge current to the battery and regulates the final float voltage to 4.2V. An internal precision resistor divider from this pin sets the float voltage which is disconnected in shutdown mode.", 4 VCC (power), 5 PROG (in) "Charge Current Program, Charge Current Monitor and Shutdown Pin. The charge current is programmed by connecting a 1% resistor, RPROG, to ground. When charging in constant-current mode, this pin servos to 1V. In all modes, (See Datasheet)"

## LTC4054XES5-4.2#TRMPBF
designator U?
Standalone Linear Li-Ion Battery Charger with Thermal Regulation, 4.25 to 6.5 V Vin, 5-pin SOT23 (S5-5), -40 to 85 degC, Pb-Free, Mini Tape and Reel; Manufacturer: Linear Technology; PartNumber: LTC4054XES5-4.2#TRMPBF; Battery Chemistry: Li-Ion, Li-Polymer; Charge Termination: C/10; Float Voltage: 4.2 V; Max Charge Current(A): 0.8; Number of Cells: 1; Vin Max(V): 6.5; Vin Min(V): 4.25; PackageVersion: Jun-10; PackageReference: S5-5; PackageDescription: 5-Pin Plastic TSOT-23, Body 1.63 x 2.90 mm, Pitch 0.95 mm; Supplier 1: Digi-Key; Supplier Part Number 1: LTC4054XES5-4.2#TRMPBF-ND; Supplier 2: Newark; Supplier Part Number 2: 58M0863; Packing: Mini Tape and Reel; RoHS: TRUE; Type of Charger: Linear; Mounting Technology: Surface Mount; Code_JEDEC: MO-193; ComponentLink1Description: Manufacturer URL; ComponentLink1URL: http://www.linear.com/; ComponentLink2Description: Datasheet; ComponentLink2URL: http://cds.linear.com/docs/en/datasheet/405442xf.pdf; ComponentLink3Description: Package Specification; ComponentLink3URL: http://cds.linear.com/docs/en/packaging/SOT_5_05-08-1635.pdf
footprint LT-S5-5-TSOT-23_N (SOT23, 5-Leads, Body 2.90x1.63mm, Pitch 0.95mm, IPC Medium Density)
footprint LT-S5-5-TSOT-23_L (SOT23, 5-Leads, Body 2.90x1.63mm, Pitch 0.95mm, IPC High Density)
footprint LT-S5-5-TSOT-23_M (SOT23, 5-Leads, Body 2.90x1.63mm, Pitch 0.95mm, IPC Low Density)
pins: 1 ~{CHRG} (hiz), 2 GND (power) "Ground.", 3 BAT (power) "Charge Current Output. Provides charge current to the battery and regulates the final float voltage to 4.2V. An internal precision resistor divider from this pin sets the float voltage which is disconnected in shutdown mode.", 4 VCC (power), 5 PROG (in) "Charge Current Program, Charge Current Monitor and Shutdown Pin. The charge current is programmed by connecting a 1% resistor, RPROG, to ground. When charging in constant-current mode, this pin servos to 1V. In all modes, (See Datasheet)"

## LTC4054XES5-4.2#TRPBF
designator U?
Standalone Linear Li-Ion Battery Charger with Thermal Regulation, 4.25 to 6.5 V Vin, 5-pin SOT23 (S5-5), -40 to 85 degC, Pb-Free, Tape and Reel; Manufacturer: Linear Technology; PartNumber: LTC4054XES5-4.2#TRPBF; Battery Chemistry: Li-Ion, Li-Polymer; Charge Termination: C/10; Float Voltage: 4.2 V; Max Charge Current(A): 0.8; Number of Cells: 1; Vin Max(V): 6.5; Vin Min(V): 4.25; PackageVersion: Jun-10; PackageReference: S5-5; PackageDescription: 5-Pin Plastic TSOT-23, Body 1.63 x 2.90 mm, Pitch 0.95 mm; Supplier 1: Digi-Key; Supplier Part Number 1: LTC4054XES5-4.2#TRPBF-ND; Packing: Tape and Reel; RoHS: TRUE; Type of Charger: Linear; Mounting Technology: Surface Mount; Code_JEDEC: MO-193; ComponentLink1Description: Manufacturer URL; ComponentLink1URL: http://www.linear.com/; ComponentLink2Description: Datasheet; ComponentLink2URL: http://cds.linear.com/docs/en/datasheet/405442xf.pdf; ComponentLink3Description: Package Specification; ComponentLink3URL: http://cds.linear.com/docs/en/packaging/SOT_5_05-08-1635.pdf
footprint LT-S5-5-TSOT-23_N (SOT23, 5-Leads, Body 2.90x1.63mm, Pitch 0.95mm, IPC Medium Density)
footprint LT-S5-5-TSOT-23_L (SOT23, 5-Leads, Body 2.90x1.63mm, Pitch 0.95mm, IPC High Density)
footprint LT-S5-5-TSOT-23_M (SOT23, 5-Leads, Body 2.90x1.63mm, Pitch 0.95mm, IPC Low Density)
pins: 1 ~{CHRG} (hiz), 2 GND (power) "Ground.", 3 BAT (power) "Charge Current Output. Provides charge current to the battery and regulates the final float voltage to 4.2V. An internal precision resistor divider from this pin sets the float voltage which is disconnected in shutdown mode.", 4 VCC (power), 5 PROG (in) "Charge Current Program, Charge Current Monitor and Shutdown Pin. The charge current is programmed by connecting a 1% resistor, RPROG, to ground. When charging in constant-current mode, this pin servos to 1V. In all modes, (See Datasheet)"

## LTC4056ETS8-4.2
designator U?
No Charging Interruption Due to Input Voltage Fluctuation, 4.5 to 6.5 V Vin, 8-pin SOT23 (TS8-8), -40 to 85 degC; Manufacturer: Linear Technology; PartNumber: LTC4056ETS8-4.2; Battery Chemistry: Li-Ion, Li-Polymer; Charge Termination: On-board timer; Float Voltage: 4.2 V; Max Charge Current(A): 0.7; Number of Cells: 1; Type of Charger: Linear; Vin Max(V): 6.5; Vin Min(V): 4.5; PackageVersion: Rev. A, 08/2010; PackageReference: TS8-8; PackageDescription: 8-Pin Plastic TSOT-23, Body 2.9 x 1.63 mm, Pitch 0.65 mm; RoHS: FALSE; Mounting Technology: Surface Mount; Code_JEDEC: MO-193; ComponentLink1Description: Manufacturer URL; ComponentLink1URL: http://www.linear.com/; ComponentLink2Description: Datasheet; ComponentLink2URL: http://cds.linear.com/docs/en/datasheet/405642f.pdf; ComponentLink3Description: Package Specification; ComponentLink3URL: http://cds.linear.com/docs/en/packaging/SOT_8_05-08-1637.pdf
footprint LT-TS8-8-TSOT-23_V (SOT23, 8-Leads, Body 2.9x1.75mm, Pitch 0.65mm)
pins: 1 VCC (power) "Positive Input Supply Voltage. This pin supplies power to the internal control circuitry and external PNP transistor through the internal current sense resistor. This pin should be bypassed to ground with a capacitor in the (See Datasheet)", 2 ISENSE (in) "Sense Node for Charge Current. Current from VCC passes through the internal current sense resistor and out of the ISENSE pin to supply current to the emitter of the external PNP transistor. The collector of the PNP provides (See Datasheet)", 3 DRIVE (out) "Base Drive Output for the External PNP Pass Transistor. Provides a controlled sink current to drive the base of the PNP. This pin has current limiting protection.", 4 GND (power) "Ground. Provides a reference for the internal voltage regulator and a return for all internal circuits. When in the constant voltage mode, the LTC4056 will precisely regulate the voltage between the BAT and GND pins. The (See Datasheet)", 5 PROG (in) "Charge Current Programming Pin. Provides a virtual reference voltage of 1V for an external nesistor (RPROG) connected between this pin and ground to program the battery charge current. In constant current mode the typical (See Datasheet)", 6 BAT (in) "Battery Voltage Sense Input. A precision internal resistor divider sets the final float voltage on this pin. This divider is disconnected in the manual shutdown or sleep mode. No bypass capacitance is needed on this pin for (See Datasheet)", 7 TIMER/~{SHDN} (in) "Programmable Charge Termination Timer and Shutdown Input. Pulling this pin below the shutdown threshold voltage will shut down the charger reducing the supply current to approximately 40uA and the battery drain current to (See Datasheet)", 8 ~{CHRG} (hiz) "Open-Drain Charge Status Output. When the battery is being charged, the C\H\R\G\ pin is pulled low by an internal N-channel MOSFET. When the timer has timed out (terminating the charge cycle) or when the LTC4056 is in (See Datasheet)"

## LTC4056ETS8-4.2#PBF
designator U?
No Charging Interruption Due to Input Voltage Fluctuation, 4.5 to 6.5 V Vin, 8-pin SOT23 (TS8-8), -40 to 85 degC, Pb-Free; Manufacturer: Linear Technology; PartNumber: LTC4056ETS8-4.2#PBF; Battery Chemistry: Li-Ion, Li-Polymer; Charge Termination: On-board timer; Float Voltage: 4.2 V; Max Charge Current(A): 0.7; Number of Cells: 1; Type of Charger: Linear; Vin Max(V): 6.5; Vin Min(V): 4.5; PackageVersion: Rev. A, 08/2010; PackageReference: TS8-8; PackageDescription: 8-Pin Plastic TSOT-23, Body 2.9 x 1.63 mm, Pitch 0.65 mm; RoHS: TRUE; Mounting Technology: Surface Mount; Code_JEDEC: MO-193; ComponentLink1Description: Manufacturer URL; ComponentLink1URL: http://www.linear.com/; ComponentLink2Description: Datasheet; ComponentLink2URL: http://cds.linear.com/docs/en/datasheet/405642f.pdf; ComponentLink3Description: Package Specification; ComponentLink3URL: http://cds.linear.com/docs/en/packaging/SOT_8_05-08-1637.pdf
footprint LT-TS8-8-TSOT-23_V (SOT23, 8-Leads, Body 2.9x1.75mm, Pitch 0.65mm)
pins: 1 VCC (power) "Positive Input Supply Voltage. This pin supplies power to the internal control circuitry and external PNP transistor through the internal current sense resistor. This pin should be bypassed to ground with a capacitor in the (See Datasheet)", 2 ISENSE (in) "Sense Node for Charge Current. Current from VCC passes through the internal current sense resistor and out of the ISENSE pin to supply current to the emitter of the external PNP transistor. The collector of the PNP provides (See Datasheet)", 3 DRIVE (out) "Base Drive Output for the External PNP Pass Transistor. Provides a controlled sink current to drive the base of the PNP. This pin has current limiting protection.", 4 GND (power) "Ground. Provides a reference for the internal voltage regulator and a return for all internal circuits. When in the constant voltage mode, the LTC4056 will precisely regulate the voltage between the BAT and GND pins. The (See Datasheet)", 5 PROG (in) "Charge Current Programming Pin. Provides a virtual reference voltage of 1V for an external nesistor (RPROG) connected between this pin and ground to program the battery charge current. In constant current mode the typical (See Datasheet)", 6 BAT (in) "Battery Voltage Sense Input. A precision internal resistor divider sets the final float voltage on this pin. This divider is disconnected in the manual shutdown or sleep mode. No bypass capacitance is needed on this pin for (See Datasheet)", 7 TIMER/~{SHDN} (in) "Programmable Charge Termination Timer and Shutdown Input. Pulling this pin below the shutdown threshold voltage will shut down the charger reducing the supply current to approximately 40uA and the battery drain current to (See Datasheet)", 8 ~{CHRG} (hiz) "Open-Drain Charge Status Output. When the battery is being charged, the C\H\R\G\ pin is pulled low by an internal N-channel MOSFET. When the timer has timed out (terminating the charge cycle) or when the LTC4056 is in (See Datasheet)"